# Altium integrated library ON Semi EMI Filters.IntLib: 88 symbols (part 2 of 3)
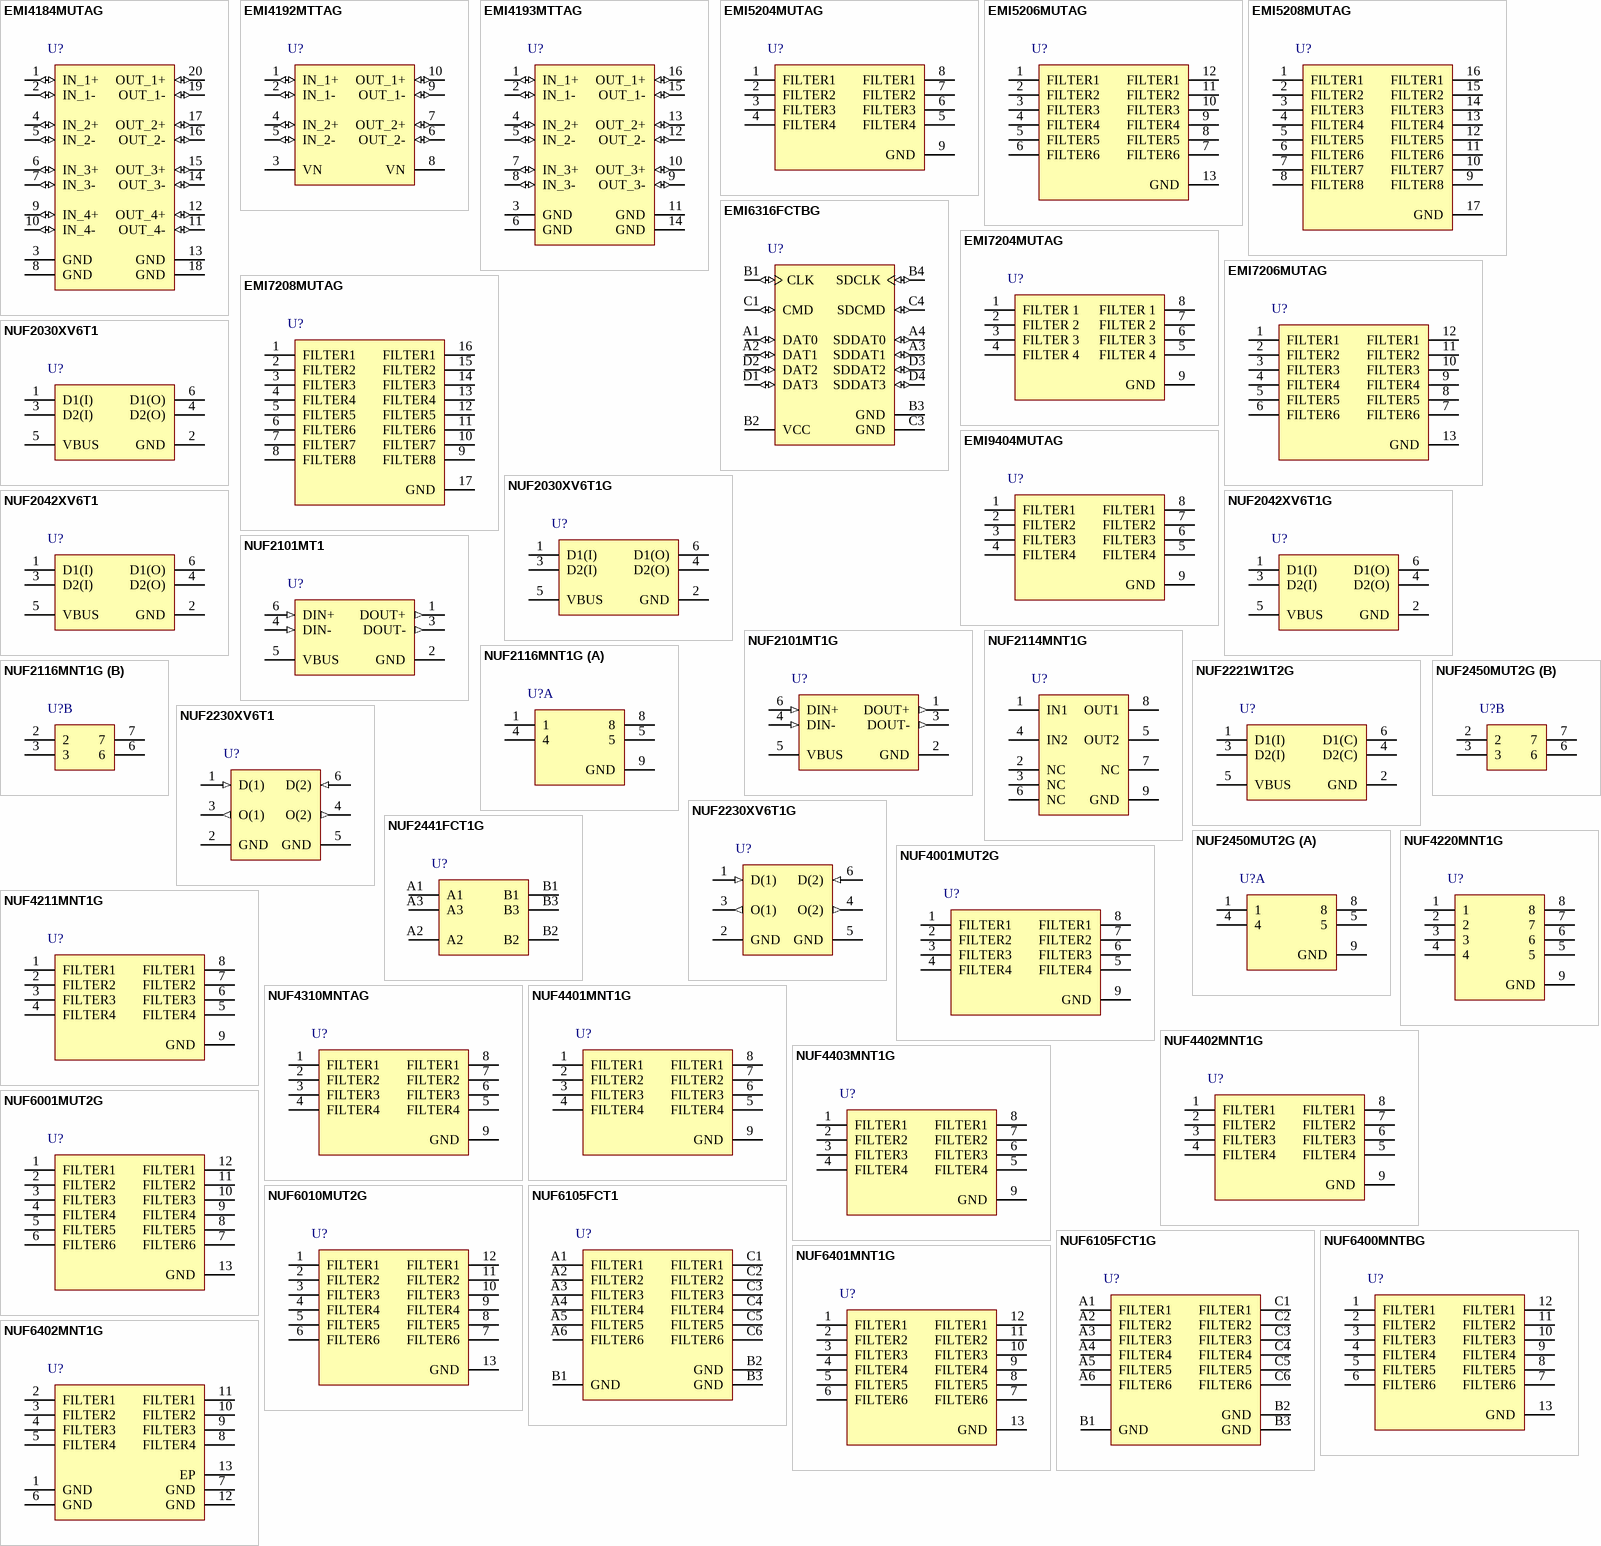
[diagram p3: symbols EMI4184MUTAG to NUF6402MNT1G]

## EMI4184MUTAG
designator U?
Common Mode Filter with ESD Protection, -40 to 85 degC, 20-Pin UDFN, Pb-Free, Tape and Reel; Manufacturer: On Semiconductor; PartNumber: EMI4184MUTAG; C Typ (pF): 0.8; Number of Lines: 8; VRWM Max (V): 5; DatasheetVersion: Rev. 0; PackageVersion: Rev. O, 07/2012; PackageReference: UDFN-20-517CL; PackageDescription: 20-Pin Small Outline No-Lead, Body 5 x 2 mm, Pitch 0.5 mm; Supplier 1: Newark; Supplier Part Number 1: 72W1858; Supplier 2: Mouser; Supplier Part Number 2: 863-EMI4184MUTAG; Packing: Tape and Reel; RoHS: Pb-Free; Mounting Technology: Surface Mount; ComponentLink1Description: Manufacturer URL; ComponentLink1URL: http://www.onsemi.com/; ComponentLink2Description: Datasheet; ComponentLink2URL: http://www.onsemi.com/pub_link/Collateral/EMI4184-D.PDF; ComponentLink3Description: Package Specification; ComponentLink3URL: http://www.onsemi.com/pub_link/Collateral/517CL.PDF
footprint ONSC-UDFN-20-517CL_V (SON, 20-Leads, Body 5x2mm, Pitch 0.5mm)
pins: 1 IN_1+ (io) "CMF Channel 1+ to Connector", 2 IN_1- (io) "CMF Channel 1- to Connector", 3 GND (power) "Ground", 4 IN_2+ (io) "CMF Channel 2+ to Connector", 5 IN_2- (io) "CMF Channel 2- to Connector", 6 IN_3+ (io) "CMF Channel 3+ to Connector", 7 IN_3- (io) "CMF Channel 3- to Connector", 8 GND (power) "Ground", 9 IN_4+ (io) "CMF Channel 4+ to Connector", 10 IN_4- (io) "CMF Channel 4- to Connector", 11 OUT_4- (io) "CMF Channel 4- to ASIC", 12 OUT_4+ (io) "CMF Channel 4+ to ASIC", 13 GND (power) "Ground", 14 OUT_3- (io) "CMF Channel 3- to ASIC", 15 OUT_3+ (io) "CMF Channel 3+ to ASIC", 16 OUT_2- (io) "CMF Channel 2- to ASIC", 17 OUT_2+ (io) "CMF Channel 2+ to ASIC", 18 GND (power) "Ground", 19 OUT_1- (io) "CMF Channel 1- to ASIC", 20 OUT_1+ (io) "CMF Channel 1+ to ASIC"

## EMI4192MTTAG
designator U?
Common Mode Filter with ESD Protection, -40 to 85 degC, 10-Pin WDFN, Pb-Free, Tape and Reel; Manufacturer: On Semiconductor; PartNumber: EMI4192MTTAG; C Typ (pF): 0.8; Number of Lines: 4; VRWM Max (V): 5; DatasheetVersion: Rev. 2; PackageVersion: Rev. O, 06/2010; PackageReference: WDFN-10-511BM-01; PackageDescription: 10-Pin Small Outline No-Lead, Body 2.5 x 2 mm, Pitch 0.5 mm; Supplier 1: Digi-Key; Supplier Part Number 1: EMI4192MTTAG-ND; Supplier 2: Newark; Supplier Part Number 2: 92T2057; Supplier 3: Mouser; Supplier Part Number 3: 863-EMI4192MTTAG; Packing: Tape and Reel; RoHS: Pb-Free; Mounting Technology: Surface Mount; ComponentLink1Description: Manufacturer URL; ComponentLink1URL: http://www.onsemi.com/; ComponentLink2Description: Datasheet; ComponentLink2URL: http://www.onsemi.cn/pub_link/Collateral/EMI4192-D.PDF; ComponentLink3Description: Package Specification; ComponentLink3URL: http://www.onsemi.cn/pub_link/Collateral/511BM.PDF
footprint ONSC-WDFN-10-511BM-01_V (SON, 10-Leads, Body 2.5x2mm, Pitch 0.5mm)
pins: 1 IN_1+ (io) "CMF Channel 1+ to Connector (External)", 2 IN_1- (io) "CMF Channel 1- to Connector (External)", 3 VN (power) "Ground", 4 IN_2+ (io) "CMF Channel 1+ to Connector (External)", 5 IN_2- (io) "CMF Channel 1- to Connector (External)", 6 OUT_2- (io) "CMF Channel 2- to ASIC (Internal)", 7 OUT_2+ (io) "CMF Channel 2+ to ASIC (Internal)", 8 VN (power) "Ground", 9 OUT_1- (io) "CMF Channel 1- to ASIC (Internal)", 10 OUT_1+ (io) "CMF Channel 1+ to ASIC (Internal)"

## EMI4193MTTAG
designator U?
Common Mode Filter with ESD Protection, -40 to 85 degC, 16-Pin WDFN, Pb-Free, Tape and Reel; Manufacturer: On Semiconductor; PartNumber: EMI4193MTTAG; C Typ (pF): 0.8; Number of Lines: 6; VRWM Max (V): 5; DatasheetVersion: Rev. P0; PackageVersion: Rev. O, 06/2010; PackageReference: WDFN-16-511BL-01; PackageDescription: 16-Pin Small Outline No-Lead, Body 4 x 2 mm, Pitch 0.5 mm; Packing: Tape and Reel; RoHS: Pb-Free; Mounting Technology: Surface Mount; ComponentLink1Description: Manufacturer URL; ComponentLink1URL: http://www.onsemi.com/; ComponentLink2Description: Datasheet; ComponentLink2URL: http://www.onsemi.com/pub_link/Collateral/EMI4193-D.PDF; ComponentLink3Description: Package Specification; ComponentLink3URL: http://www.onsemi.com/pub_link/Collateral/511BL.PDF
footprint ONSC-WDFN-16-511BL-01_V (SON, 16-Leads, Body 4x2mm, Pitch 0.5mm)
pins: 1 IN_1+ (io) "CMF Channel 1+ to Connector (External)", 2 IN_1- (io) "CMF Channel 1- to Connector (External)", 3 GND (power) "Ground", 4 IN_2+ (io) "CMF Channel 2+ to Connector (External)", 5 IN_2- (io) "CMF Channel 2- to Connector (External)", 6 GND (power) "Ground", 7 IN_3+ (io) "CMF Channel 3+ to Connector (External)", 8 IN_3- (io) "CMF Channel 3- to Connector (External)", 9 OUT_3- (io) "CMF Channel 3- to ASIC (Internal)", 10 OUT_3+ (io) "CMF Channel 3+ to ASIC (Internal)", 11 GND (power) "Ground", 12 OUT_2- (io) "CMF Channel 2- to ASIC (Internal)", 13 OUT_2+ (io) "CMF Channel 2+ to ASIC (Internal)", 14 GND (power) "Ground", 15 OUT_1- (io) "CMF Channel 1- to ASIC (Internal)", 16 OUT_1+ (io) "CMF Channel 1+ to ASIC (Internal)"

## EMI5204MUTAG
designator U?
Four-Channel EMI Filter with Integrated ESD Protection, -40 to 85 degC, 8-Pin UDFN, Pb-Free, Tape and Reel; Manufacturer: On Semiconductor; PartNumber: EMI5204MUTAG; Number of Lines: 4; V(BR) Typ (V): 7; VRWM Max (V): 5; DatasheetVersion: Rev. 0; PackageVersion: Rev. O, 11/2009; PackageReference: UDFN-8-517BC-01; PackageDescription: 8-Pin Small Outline No-Lead, Body 1.7 x 1.35 mm, Pitch 0.4 mm; Supplier 1: Digi-Key; Supplier Part Number 1: EMI5204MUTAG-ND; Supplier 2: Newark; Supplier Part Number 2: 65T1224; Supplier 3: Mouser; Supplier Part Number 3: 863-EMI5204MUTAG; Packing: Tape and Reel; RoHS: Pb-Free; Mounting Technology: Surface Mount; ComponentLink1Description: Manufacturer URL; ComponentLink1URL: http://www.onsemi.com/; ComponentLink2Description: Datasheet; ComponentLink2URL: http://www.onsemi.cn/pub_link/Collateral/EMI5204MU-D.PDF; ComponentLink3Description: Package Specification; ComponentLink3URL: http://www.onsemi.com/pub_link/Collateral/517BC.PDF
footprint ONSC-UDFN-8-517BC-01_V (SON, 8-Leads, Body 1.7x1.35mm, Pitch 0.4mm, Thermal Pad 1.4x0.5mm)
pins: 1 FILTER1, 2 FILTER2, 3 FILTER3, 4 FILTER4, 5 FILTER4, 6 FILTER3, 7 FILTER2, 8 FILTER1, 9 GND (power)

## EMI5206MUTAG
designator U?
Six-Channel EMI Filter with Integrated ESD Protection, -40 to 85 degC, 12-Pin UDFN, Pb-Free, Tape and Reel; Manufacturer: On Semiconductor; PartNumber: EMI5206MUTAG; Number of Lines: 6; V(BR) Typ (V): 7; VRWM Max (V): 5; DatasheetVersion: Rev. 0; PackageVersion: Rev. O, 11/2009; PackageReference: UDFN-12-517BD-01; PackageDescription: 12-Pin Small Outline No-Lead, Body 2.5 x 1.35 mm, Pitch 0.4 mm; Supplier 1: Digi-Key; Supplier Part Number 1: EMI5206MUTAG-ND; Supplier 2: Newark; Supplier Part Number 2: 65T1225; Supplier 3: Mouser; Supplier Part Number 3: 863-EMI5206MUTAG; Packing: Tape and Reel; RoHS: Pb-Free; Mounting Technology: Surface Mount; ComponentLink1Description: Manufacturer URL; ComponentLink1URL: http://www.onsemi.com/; ComponentLink2Description: Datasheet; ComponentLink2URL: http://www.onsemi.cn/pub_link/Collateral/EMI5204MU-D.PDF; ComponentLink3Description: Package Specification; ComponentLink3URL: http://www.onsemi.com/pub_link/Collateral/517BD.PDF
footprint ONSC-UDFN-12-517BD-01_V (SON, 12-Leads, Body 2.5x1.35mm, Pitch 0.4mm, Thermal Pad 2.2x0.5mm)
pins: 1 FILTER1 "Filter + ESD Channel 1", 2 FILTER2 "Filter + ESD Channel 2", 3 FILTER3 "Filter + ESD Channel 3", 4 FILTER4 "Filter + ESD Channel 4", 5 FILTER5 "Filter + ESD Channel 5", 6 FILTER6 "Filter + ESD Channel 6", 7 FILTER6 "Filter + ESD Channel 6", 8 FILTER5 "Filter + ESD Channel 5", 9 FILTER4 "Filter + ESD Channel 4", 10 FILTER3 "Filter + ESD Channel 3", 11 FILTER2 "Filter + ESD Channel 2", 12 FILTER1 "Filter + ESD Channel 1", 13 GND (power) "Ground"

## EMI5208MUTAG
designator U?
Eight-Channel EMI Filter with Integrated ESD Protection, -40 to 85 degC, 16-Pin UDFN, Pb-Free, Tape and Reel; Manufacturer: On Semiconductor; PartNumber: EMI5208MUTAG; Number of Lines: 8; V(BR) Typ (V): 7; VRWM Max (V): 5; DatasheetVersion: Rev. 0; PackageVersion: Rev. O, 11/2009; PackageReference: UDFN-16-517BE-01; PackageDescription: 16-Pin Small Outline No-Lead, Body 3.3 x 1.35 mm, Pitch 0.4 mm; Supplier 1: Digi-Key; Supplier Part Number 1: EMI5208MUTAG-ND; Supplier 2: Mouser; Supplier Part Number 2: 863-EMI5208MUTAG; Packing: Tape and Reel; RoHS: Pb-Free; Mounting Technology: Surface Mount; ComponentLink1Description: Manufacturer URL; ComponentLink1URL: http://www.onsemi.com/; ComponentLink2Description: Datasheet; ComponentLink2URL: http://www.onsemi.cn/pub_link/Collateral/EMI5204MU-D.PDF; ComponentLink3Description: Package Specification; ComponentLink3URL: http://www.onsemi.com/pub_link/Collateral/517BE.PDF
footprint ONSC-UDFN-16-517BE-01_V (SON, 16-Leads, Body 3.3x1.35mm, Pitch 0.4mm, Thermal Pad 3x0.5mm)
pins: 1 FILTER1 "Filter + ESD Channel 1", 2 FILTER2 "Filter + ESD Channel 2", 3 FILTER3 "Filter + ESD Channel 3", 4 FILTER4 "Filter + ESD Channel 4", 5 FILTER5 "Filter + ESD Channel 5", 6 FILTER6 "Filter + ESD Channel 6", 7 FILTER7 "Filter + ESD Channel 7", 8 FILTER8 "Filter + ESD Channel 8", 9 FILTER8 "Filter + ESD Channel 8", 10 FILTER7 "Filter + ESD Channel 7", 11 FILTER6 "Filter + ESD Channel 6", 12 FILTER5 "Filter + ESD Channel 5", 13 FILTER4 "Filter + ESD Channel 4", 14 FILTER3 "Filter + ESD Channel 3", 15 FILTER2 "Filter + ESD Channel 2", 16 FILTER1 "Filter + ESD Channel 1", 17 GND (power) "Ground"

## EMI6316FCTBG
designator U?
EMI Filter with ESD Protection for MicroSD Card Application, -40 to 85 degC, 15-Pin WLCSP, Pb-Free, Tape and Reel; Manufacturer: On Semiconductor; PartNumber: EMI6316FCTBG; Number of Lines: 7; DatasheetVersion: Rev. 1; PackageVersion: Rev. O, 06/2012; PackageReference: WLCSP-15-567FX; PackageDescription: 15-Ball Wafer Level Chip Scale Package, Body 1.56 x 1.56 mm, Pitch 0.4 mm; Supplier 1: Newark; Supplier Part Number 1: 56W5218; Supplier 2: Mouser; Supplier Part Number 2: 863-EMI6316FCTBG; Packing: Tape and Reel; RoHS: Pb-Free; V(BR) Typ (V): 7; Mounting Technology: Surface Mount; ComponentLink1Description: Manufacturer URL; ComponentLink1URL: http://www.onsemi.com/; ComponentLink2Description: Datasheet; ComponentLink2URL: http://www.onsemi.cn/pub_link/Collateral/EMI6316-D.PDF; ComponentLink3Description: Package Specification; ComponentLink3URL: http://www.onsemi.cn/pub_link/Collateral/567FX.PDF
footprint ONSC-WLCSP-15-567FX (BGA, 15-Balls, Body 1.56x1.56mm, Pitch 0.4mm)
pins: A1 DAT0 (io) "dat0 Internal", A2 DAT1 (io) "dat1 Internal", A3 SDDAT1 (io) "SDdat1 External", A4 SDDAT0 (io) "SDdat0 External", B1 CLK (io) "clk Internal", B2 VCC (power) "VCC External", B3 GND (power), B4 SDCLK (io) "SDclk External", C1 CMD (io) "cmd Internal", C3 GND (power), C4 SDCMD (io) "SDcmd External", D1 DAT3 (io) "data3 Internal", D2 DAT2 (io) "data2 Internal", D3 SDDAT2 (io) "SDdata2 External", D4 SDDAT3 (io) "SDdata3 External"

## EMI7204MUTAG
designator U?
Four-Channel EMI Filter with Integrated ESD Protection, -40 to 85 degC, 8-Pin UDFN, Pb-Free, Tape and Reel; Manufacturer: On Semiconductor; PartNumber: EMI7204MUTAG; Number of Lines: 4; VRWM Max (V): 5; DatasheetVersion: Rev. 0; PackageVersion: Rev. O, 11/2009; PackageReference: UDFN-8-517BC-01; PackageDescription: 8-Pin Small Outline No-Lead, Body 1.7 x 1.35 mm, Pitch 0.4 mm; Supplier 1: Digi-Key; Supplier Part Number 1: EMI7204MUTAGOSTR-ND; Supplier 2: Digi-Key; Supplier Part Number 2: EMI7204MUTAGOSCT-ND; Supplier 3: Digi-Key; Supplier Part Number 3: EMI7204MUTAGOSDKR-ND; Supplier 4: Mouser; Supplier Part Number 4: 863-EMI7204MUTAG; Packing: Tape and Reel; RoHS: Pb-Free; Mounting Technology: Surface Mount; ComponentLink1Description: Manufacturer URL; ComponentLink1URL: http://www.onsemi.com/; ComponentLink2Description: Datasheet; ComponentLink2URL: http://www.onsemi.cn/pub_link/Collateral/EMI7204MU-D.PDF; ComponentLink3Description: Package Specification; ComponentLink3URL: http://www.onsemi.com/pub_link/Collateral/517BC.PDF
footprint ONSC-UDFN-8-517BC-01_V (SON, 8-Leads, Body 1.7x1.35mm, Pitch 0.4mm, Thermal Pad 1.4x0.5mm)
pins: 1 FILTER 1 "Filter + ESD Channel 1", 2 FILTER 2 "Filter + ESD Channel 2", 3 FILTER 3 "Filter + ESD Channel 3", 4 FILTER 4 "Filter + ESD Channel 4", 5 FILTER 4 "Filter + ESD Channel 4", 6 FILTER 3 "Filter + ESD Channel 3", 7 FILTER 2 "Filter + ESD Channel 2", 8 FILTER 1 "Filter + ESD Channel 1", 9 GND (power) "Ground"

## EMI7206MUTAG
designator U?
Six-Channel EMI Filter with Integrated ESD Protection, -40 to 85 degC, 12-Pin UDFN, Pb-Free, Tape and Reel; Manufacturer: On Semiconductor; PartNumber: EMI7206MUTAG; Number of Lines: 6; VRWM Max (V): 5; DatasheetVersion: Rev. 0; PackageVersion: Rev. O, 11/2009; PackageReference: UDFN-12-517BD-01; PackageDescription: 12-Pin Small Outline No-Lead, Body 2.5 x 1.35 mm, Pitch 0.4 mm; Supplier 1: Digi-Key; Supplier Part Number 1: EMI7206MUTAG-ND; Supplier 2: Mouser; Supplier Part Number 2: 863-EMI7206MUTAG; Packing: Tape and Reel; RoHS: Pb-Free; Mounting Technology: Surface Mount; ComponentLink1Description: Manufacturer URL; ComponentLink1URL: http://www.onsemi.com/; ComponentLink2Description: Datasheet; ComponentLink2URL: http://www.onsemi.cn/pub_link/Collateral/EMI7204MU-D.PDF; ComponentLink3Description: Package Specification; ComponentLink3URL: http://www.onsemi.com/pub_link/Collateral/517BD.PDF
footprint ONSC-UDFN-12-517BD-01_V (SON, 12-Leads, Body 2.5x1.35mm, Pitch 0.4mm, Thermal Pad 2.2x0.5mm)
pins: 1 FILTER1 "Filter + ESD Channel 1", 2 FILTER2 "Filter + ESD Channel 2", 3 FILTER3 "Filter + ESD Channel 3", 4 FILTER4 "Filter + ESD Channel 4", 5 FILTER5 "Filter + ESD Channel 5", 6 FILTER6 "Filter + ESD Channel 6", 7 FILTER6 "Filter + ESD Channel 6", 8 FILTER5 "Filter + ESD Channel 5", 9 FILTER4 "Filter + ESD Channel 4", 10 FILTER3 "Filter + ESD Channel 3", 11 FILTER2 "Filter + ESD Channel 2", 12 FILTER1 "Filter + ESD Channel 1", 13 GND (power) "Ground"

## EMI7208MUTAG
designator U?
Eight-Channel EMI Filter with Integrated ESD Protection, -40 to 85 degC, 16-Pin UDFN, Pb-Free, Tape and Reel; Manufacturer: On Semiconductor; PartNumber: EMI7208MUTAG; Number of Lines: 8; VRWM Max (V): 5; DatasheetVersion: Rev. 0; PackageVersion: Rev. O, 11/2009; PackageReference: UDFN-16-517BE-01; PackageDescription: 16-Pin Small Outline No-Lead, Body 3.3 x 1.35 mm, Pitch 0.4 mm; Supplier 1: Digi-Key; Supplier Part Number 1: EMI7208MUTAGOSTR-ND; Supplier 2: Digi-Key; Supplier Part Number 2: EMI7208MUTAGOSCT-ND; Supplier 3: Digi-Key; Supplier Part Number 3: EMI7208MUTAGOSDKR-ND; Supplier 4: Newark; Supplier Part Number 4: 24T3067; Supplier 5: Mouser; Supplier Part Number 5: 863-EMI7208MUTAG; Packing: Tape and Reel; RoHS: Pb-Free; Mounting Technology: Surface Mount; ComponentLink1Description: Manufacturer URL; ComponentLink1URL: http://www.onsemi.com/; ComponentLink2Description: Datasheet; ComponentLink2URL: http://www.onsemi.cn/pub_link/Collateral/EMI7204MU-D.PDF; ComponentLink3Description: Package Specification; ComponentLink3URL: http://www.onsemi.com/pub_link/Collateral/517BE.PDF
footprint ONSC-UDFN-16-517BE-01_V (SON, 16-Leads, Body 3.3x1.35mm, Pitch 0.4mm, Thermal Pad 3x0.5mm)
pins: 1 FILTER1 "Filter + ESD Channel 1", 2 FILTER2 "Filter + ESD Channel 2", 3 FILTER3 "Filter + ESD Channel 3", 4 FILTER4 "Filter + ESD Channel 4", 5 FILTER5 "Filter + ESD Channel 5", 6 FILTER6 "Filter + ESD Channel 6", 7 FILTER7 "Filter + ESD Channel 7", 8 FILTER8 "Filter + ESD Channel 8", 9 FILTER8 "Filter + ESD Channel 8", 10 FILTER7 "Filter + ESD Channel 7", 11 FILTER6 "Filter + ESD Channel 6", 12 FILTER5 "Filter + ESD Channel 5", 13 FILTER4 "Filter + ESD Channel 4", 14 FILTER3 "Filter + ESD Channel 3", 15 FILTER2 "Filter + ESD Channel 2", 16 FILTER1 "Filter + ESD Channel 1", 17 GND (power) "Ground"

## EMI9404MUTAG
designator U?
PRAETORIAN(R) III 4-Channel EMI Array with ESD Protection, -40 to 85 degC, 8-Pin UDFN, Pb-Free, Tape and Reel; Manufacturer: On Semiconductor; PartNumber: EMI9404MUTAG; Number of Lines: 4; DatasheetVersion: Rev. 1; PackageVersion: Rev. O, 11/2009; PackageReference: UDFN-8-517BC-01; PackageDescription: 8-Pin Small Outline No-Lead, Body 1.7 x 1.35 mm, Pitch 0.4 mm; Supplier 1: Digi-Key; Supplier Part Number 1: EMI9404MUTAG-ND; Supplier 2: Newark; Supplier Part Number 2: 92T2058; Supplier 3: Mouser; Supplier Part Number 3: 863-EMI9404MUTAG; Packing: Tape and Reel; RoHS: Pb-Free; Mounting Technology: Surface Mount; ComponentLink1Description: Manufacturer URL; ComponentLink1URL: http://www.onsemi.com/; ComponentLink2Description: Datasheet; ComponentLink2URL: http://www.onsemi.cn/pub_link/Collateral/EMI9404-D.PDF; ComponentLink3Description: Package Specification; ComponentLink3URL: http://www.onsemi.com/pub_link/Collateral/517BC.PDF
footprint ONSC-UDFN-8-517BC-01_V (SON, 8-Leads, Body 1.7x1.35mm, Pitch 0.4mm, Thermal Pad 1.4x0.5mm)
pins: 1 FILTER1 "Filter + ESD Channel 1 (Internal)", 2 FILTER2 "Filter + ESD Channel 2 (Internal)", 3 FILTER3 "Filter + ESD Channel 3 (Internal)", 4 FILTER4 "Filter + ESD Channel 4 (Internal)", 5 FILTER4 "Filter + ESD Channel 4 (External)", 6 FILTER3 "Filter + ESD Channel 3 (External)", 7 FILTER2 "Filter + ESD Channel 2 (External)", 8 FILTER1 "Filter + ESD Channel 1 (External)", 9 GND (power) "Device Ground"

## NUF2030XV6T1
designator U?
USB Upstream Terminator with ESD Protection, -55 to 125 degC, 6-Pin SOT-563, Pb-Free, Tape and Reel; Manufacturer: On Semiconductor; PartNumber: NUF2030XV6T1; C Typ (pF): 30; Number of Lines: 3; V(BR) Typ (V): 6.8; VRWM Max (V): 5.25; DatasheetVersion: Rev. 2; PackageVersion: Rev. F, 04/2005; PackageReference: SOT-563-6-463A-01; PackageDescription: 6-Pin Small Outline Transistor, Body 1.6 x 1.2 mm, Pitch 0.5 mm; Supplier 1: Digi-Key; Supplier Part Number 1: NUF2030XV6T1-ND; Supplier 2: Mouser; Supplier Part Number 2: 863-NUF2030XV6T1; Packing: Tape and Reel; RoHS: Pb-Free; Mounting Technology: Surface Mount; ComponentLink1Description: Manufacturer URL; ComponentLink1URL: http://www.onsemi.com/; ComponentLink2Description: Datasheet; ComponentLink2URL: http://www.onsemi.cn/pub_link/Collateral/NUF2030XV6-D.PDF; ComponentLink3Description: Package Specification; ComponentLink3URL: http://www.onsemi.cn/pub_link/Collateral/463A-01.PDF
footprint ONSC-SOT-563-6-463A-01_V (SOT23, 6-Leads, Body 1.6x1.2mm, Pitch 0.5mm)
pins: 1 D1(I), 2 GND (power), 3 D2(I), 4 D2(O), 5 VBUS (power), 6 D1(O)

## NUF2030XV6T1G
designator U?
USB Upstream Terminator with ESD Protection, -55 to 125 degC, 6-Pin SOT-563, Pb-Free, Tape and Reel; Manufacturer: On Semiconductor; PartNumber: NUF2030XV6T1G; C Typ (pF): 30; Number of Lines: 3; V(BR) Typ (V): 6.8; VRWM Max (V): 5.25; DatasheetVersion: Rev. 2; PackageVersion: Rev. F, 04/2005; PackageReference: SOT-563-6-463A-01; PackageDescription: 6-Pin Small Outline Transistor, Body 1.6 x 1.2 mm, Pitch 0.5 mm; Supplier 1: Digi-Key; Supplier Part Number 1: NUF2030XV6T1G-ND; Supplier 2: Mouser; Supplier Part Number 2: 863-NUF2030XV6T1G; Packing: Tape and Reel; RoHS: Pb-Free; Mounting Technology: Surface Mount; ComponentLink1Description: Manufacturer URL; ComponentLink1URL: http://www.onsemi.com/; ComponentLink2Description: Datasheet; ComponentLink2URL: http://www.onsemi.cn/pub_link/Collateral/NUF2030XV6-D.PDF; ComponentLink3Description: Package Specification; ComponentLink3URL: http://www.onsemi.cn/pub_link/Collateral/463A-01.PDF
footprint ONSC-SOT-563-6-463A-01_V (SOT23, 6-Leads, Body 1.6x1.2mm, Pitch 0.5mm)
pins: 1 D1(I), 2 GND (power), 3 D2(I), 4 D2(O), 5 VBUS (power), 6 D1(O)

## NUF2042XV6T1
designator U?
USB Upstream Terminator with ESD Protection, 6-Pin SOT-563, Pb-Free, Tape and Reel; Manufacturer: On Semiconductor; PartNumber: NUF2042XV6T1; C Typ (pF): 42; Number of Lines: 3; V(BR) Typ (V): 6.8; VRWM Max (V): 5.25; DatasheetVersion: Rev. 2; PackageVersion: Rev. F, 04/2005; PackageReference: SOT-563-6-463A-01; PackageDescription: 6-Pin Small Outline Transistor, Body 1.6 x 1.2 mm, Pitch 0.5 mm; Supplier 1: Digi-Key; Supplier Part Number 1: NUF2042XV6T1-ND; Supplier 2: Mouser; Supplier Part Number 2: 863-NUF2042XV6T1; Packing: Tape and Reel; RoHS: Pb-Free; Mounting Technology: Surface Mount; ComponentLink1Description: Manufacturer URL; ComponentLink1URL: http://www.onsemi.com/; ComponentLink2Description: Datasheet; ComponentLink2URL: http://www.onsemi.cn/pub_link/Collateral/NUF2030XV6-D.PDF; ComponentLink3Description: Package Specification; ComponentLink3URL: http://www.onsemi.cn/pub_link/Collateral/463A-01.PDF
footprint ONSC-SOT-563-6-463A-01_V (SOT23, 6-Leads, Body 1.6x1.2mm, Pitch 0.5mm)
pins: 1 D1(I), 2 GND (power), 3 D2(I), 4 D2(O), 5 VBUS (power), 6 D1(O)

## NUF2042XV6T1G
designator U?
USB Upstream Terminator with ESD Protection, 6-Pin SOT-563, Pb-Free, Tape and Reel; Manufacturer: On Semiconductor; PartNumber: NUF2042XV6T1G; C Typ (pF): 42; Number of Lines: 3; V(BR) Typ (V): 6.8; VRWM Max (V): 5.25; DatasheetVersion: Rev. 2; PackageVersion: Rev. F, 04/2005; PackageReference: SOT-563-6-463A-01; PackageDescription: 6-Pin Small Outline Transistor, Body 1.6 x 1.2 mm, Pitch 0.5 mm; Supplier 1: Digi-Key; Supplier Part Number 1: NUF2042XV6T1GOSTR-ND; Supplier 2: Digi-Key; Supplier Part Number 2: NUF2042XV6T1GOSCT-ND; Supplier 3: Digi-Key; Supplier Part Number 3: NUF2042XV6T1GOSDKR-ND; Supplier 4: Newark; Supplier Part Number 4: 83K8696; Supplier 5: Mouser; Supplier Part Number 5: 863-NUF2042XV6T1G; Packing: Tape and Reel; RoHS: Pb-Free; Mounting Technology: Surface Mount; ComponentLink1Description: Manufacturer URL; ComponentLink1URL: http://www.onsemi.com/; ComponentLink2Description: Datasheet; ComponentLink2URL: http://www.onsemi.cn/pub_link/Collateral/NUF2030XV6-D.PDF; ComponentLink3Description: Package Specification; ComponentLink3URL: http://www.onsemi.cn/pub_link/Collateral/463A-01.PDF
footprint ONSC-SOT-563-6-463A-01_V (SOT23, 6-Leads, Body 1.6x1.2mm, Pitch 0.5mm)
pins: 1 D1(I), 2 GND (power), 3 D2(I), 4 D2(O), 5 VBUS (power), 6 D1(O)

## NUF2101MT1
designator U?
USB Filter with ESD Protection, -55 to 125 degC, 6-Pin TSOP, Tape and Reel; Manufacturer: On Semiconductor; PartNumber: NUF2101MT1; C Typ (pF): 55; Number of Lines: 3; DatasheetVersion: Rev. 1; PackageVersion: Rev. V, 06/2012; PackageReference: TSOP-6-318G-02; PackageDescription: 6-Pin Small Outline Package, Body 3 x 1.5 mm, Pitch 0.95 mm; Supplier 1: Digi-Key; Supplier Part Number 1: NUF2101MT1OSTR-ND; Supplier 2: Digi-Key; Supplier Part Number 2: NUF2101MT1OSCT-ND; Supplier 3: Mouser; Supplier Part Number 3: 863-NUF2101MT1; Packing: Tape and Reel; Mounting Technology: Surface Mount; ComponentLink1Description: Manufacturer URL; ComponentLink1URL: http://www.onsemi.com/; ComponentLink2Description: Datasheet; ComponentLink2URL: http://www.onsemi.cn/pub_link/Collateral/NUF2101M-D.PDF; ComponentLink3Description: Package Specification; ComponentLink3URL: http://www.onsemi.com/pub_link/Collateral/318G-02.PDF
footprint ONSC-TSOP-6-318G-02_V (SOP, 6-Leads, Body 3x1.5mm, Pitch 0.95mm)
pins: 1 DOUT+ (out), 2 GND (power), 3 DOUT- (out), 4 DIN- (in), 5 VBUS (power), 6 DIN+ (in)

## NUF2101MT1G
designator U?
USB Filter with ESD Protection, -55 to 125 degC, 6-Pin TSOP, Pb-Free, Tape and Reel; Manufacturer: On Semiconductor; PartNumber: NUF2101MT1G; C Typ (pF): 55; Number of Lines: 3; DatasheetVersion: Rev. 1; PackageVersion: Rev. V, 06/2012; PackageReference: TSOP-6-318G-02; PackageDescription: 6-Pin Small Outline Package, Body 3 x 1.5 mm, Pitch 0.95 mm; Supplier 1: Digi-Key; Supplier Part Number 1: NUF2101MT1GOSTR-ND; Supplier 2: Digi-Key; Supplier Part Number 2: NUF2101MT1GOSCT-ND; Supplier 3: Digi-Key; Supplier Part Number 3: NUF2101MT1GOSDKR-ND; Supplier 4: Newark; Supplier Part Number 4: 04R7860; Supplier 5: Newark; Supplier Part Number 5: 26K5132; Supplier 6: Mouser; Supplier Part Number 6: 863-NUF2101MT1G; Packing: Tape and Reel; RoHS: Pb-Free; Mounting Technology: Surface Mount; ComponentLink1Description: Manufacturer URL; ComponentLink1URL: http://www.onsemi.com/; ComponentLink2Description: Datasheet; ComponentLink2URL: http://www.onsemi.cn/pub_link/Collateral/NUF2101M-D.PDF; ComponentLink3Description: Package Specification; ComponentLink3URL: http://www.onsemi.com/pub_link/Collateral/318G-02.PDF
footprint ONSC-TSOP-6-318G-02_V (SOP, 6-Leads, Body 3x1.5mm, Pitch 0.95mm)
pins: 1 DOUT+ (out), 2 GND (power), 3 DOUT- (out), 4 DIN- (in), 5 VBUS (power), 6 DIN+ (in)

## NUF2114MNT1G
designator U?
2 Line Audio EMI Filter with ESD Protection, -40 to 85 degC, 8-Pin DFN, Pb-Free, Tape and Reel; Manufacturer: On Semiconductor; PartNumber: NUF2114MNT1G; C Typ (pF): 60; Number of Lines: 2; V(BR) Typ (V): 15.7; VRWM Max (V): 12; DatasheetVersion: Rev. 0; PackageVersion: Rev. E, 01/2010; PackageReference: DFN-8-506AA-01; PackageDescription: 8-Pin Small Outline No-Lead, Body 2 x 2 mm, Pitch 0.5 mm; Supplier 1: Digi-Key; Supplier Part Number 1: NUF2114MNT1GOSTR-ND; Supplier 2: Digi-Key; Supplier Part Number 2: NUF2114MNT1GOSCT-ND; Supplier 3: Digi-Key; Supplier Part Number 3: NUF2114MNT1GOSDKR-ND; Supplier 4: Newark; Supplier Part Number 4: 83K8698; Supplier 5: Mouser; Supplier Part Number 5: 863-NUF2114MNT1G; Packing: Tape and Reel; RoHS: Pb-Free; Mounting Technology: Surface Mount; ComponentLink1Description: Manufacturer URL; ComponentLink1URL: http://www.onsemi.com/; ComponentLink2Description: Datasheet; ComponentLink2URL: http://www.onsemi.cn/pub_link/Collateral/NUF2114-D.PDF; ComponentLink3Description: Package Specification; ComponentLink3URL: http://www.onsemi.cn/pub_link/Collateral/506AA.PDF
footprint ONSC-DFN-8-506AA-01_V (SON, 8-Leads, Body 2x2mm, Pitch 0.5mm, Thermal Pad 1.3x0.9mm)
pins: 1 IN1, 2 NC, 3 NC, 4 IN2, 5 OUT2, 6 NC, 7 NC, 8 OUT1, 9 GND (power)

## NUF2116MNT1G
designator U?
2 Line Audio EMI Filter with ESD Protection, -40 to 85 degC, 8-Pin DFN, Pb-Free, Tape and Reel; Manufacturer: On Semiconductor; PartNumber: NUF2116MNT1G; C Typ (pF): 50; Number of Lines: 2; V(BR) Typ (V): 15.7; VRWM Max (V): 12; DatasheetVersion: Rev. 1; PackageVersion: Rev. E, 01/2010; PackageReference: DFN-8-506AA-01; PackageDescription: 8-Pin Small Outline No-Lead, Body 2 x 2 mm, Pitch 0.5 mm; Supplier 1: Digi-Key; Supplier Part Number 1: NUF2116MNT1GOSTR-ND; Supplier 2: Digi-Key; Supplier Part Number 2: NUF2116MNT1GOSCT-ND; Supplier 3: Newark; Supplier Part Number 3: 83K8699; Supplier 4: Mouser; Supplier Part Number 4: 863-NUF2116MNT1G; Packing: Tape and Reel; RoHS: Pb-Free; Mounting Technology: Surface Mount; ComponentLink1Description: Manufacturer URL; ComponentLink1URL: http://www.onsemi.com/; ComponentLink2Description: Datasheet; ComponentLink2URL: http://www.onsemi.cn/pub_link/Collateral/NUF2116MN-D.PDF; ComponentLink3Description: Package Specification; ComponentLink3URL: http://www.onsemi.cn/pub_link/Collateral/506AA.PDF
footprint ONSC-DFN-8-506AA-01_V (SON, 8-Leads, Body 2x2mm, Pitch 0.5mm, Thermal Pad 1.3x0.9mm)
part A pins: 1, 4, 5, 8, 9 GND (power)
part B pins: 2, 3, 6, 7

## NUF2221W1T2G
designator U?
USB Upstream Terminator with ESD Protection, -55 to 125 degC, 6-Pin SC70, Pb-Free, Tape and Reel; Manufacturer: On Semiconductor; PartNumber: NUF2221W1T2G; C Typ (pF): 42; Number of Lines: 3; V(BR) Typ (V): 6.8; VRWM Max (V): 5.25; DatasheetVersion: Rev. 0; PackageVersion: Rev. W; PackageReference: SC70-6-419B-02_W; PackageDescription: 6-Pin Small Outline Transistor, Body 2 x 1.25 mm, Pitch 0.65 mm; Supplier 1: Digi-Key; Supplier Part Number 1: NUF2221W1T2GOSTR-ND; Supplier 2: Digi-Key; Supplier Part Number 2: NUF2221W1T2GOSCT-ND; Supplier 3: Digi-Key; Supplier Part Number 3: NUF2221W1T2GOSDKR-ND; Supplier 4: Farnell; Supplier Part Number 4: 2101235; Supplier 5: Newark; Supplier Part Number 5: 04R7861; Supplier 6: Newark; Supplier Part Number 6: 45J2193; Supplier 7: Mouser; Supplier Part Number 7: 863-NUF2221W1T2G; Packing: Tape and Reel; RoHS: Pb-Free; Mounting Technology: Surface Mount; ComponentLink1Description: Manufacturer URL; ComponentLink1URL: http://www.onsemi.com/; ComponentLink2Description: Datasheet; ComponentLink2URL: http://www.onsemi.cn/pub_link/Collateral/NUF2221W1T2-D.PDF; ComponentLink3Description: Package Specification; ComponentLink3URL: http://www.onsemi.com/pub_link/Collateral/SMF05C-D.PDF
footprint ONSC-SC70-6-419B-02_W_V (SOT23, 6-Leads, Body 2x1.25mm, Pitch 0.65mm)
pins: 1 D1(I), 2 GND (power), 3 D2(I), 4 D2(C), 5 VBUS (power), 6 D1(C)

## NUF2230XV6T1
designator U?
2 Line EMI Filter with ESD Protection, -40 to 85 degC, 6-Pin SOT-563, Pb-Free, Tape and Reel; Manufacturer: On Semiconductor; PartNumber: NUF2230XV6T1; C Typ (pF): 16; Number of Lines: 2; V(BR) Typ (V): 7; VRWM Max (V): 5; DatasheetVersion: Rev. 3; PackageVersion: Rev. F, 04/2005; PackageReference: SOT-563-6-463A-01; PackageDescription: 6-Pin Small Outline Transistor, Body 1.6 x 1.2 mm, Pitch 0.5 mm; Supplier 1: Digi-Key; Supplier Part Number 1: NUF2230XV6T1-ND; Supplier 2: Mouser; Supplier Part Number 2: 863-NUF2230XV6T1; Packing: Tape and Reel; RoHS: Pb-Free; Mounting Technology: Surface Mount; ComponentLink1Description: Manufacturer URL; ComponentLink1URL: http://www.onsemi.com/; ComponentLink2Description: Datasheet; ComponentLink2URL: http://www.onsemi.cn/pub_link/Collateral/NUF2230XV6-D.PDF; ComponentLink3Description: Package Specification; ComponentLink3URL: http://www.onsemi.cn/pub_link/Collateral/463A-01.PDF
footprint ONSC-SOT-563-6-463A-01_V (SOT23, 6-Leads, Body 1.6x1.2mm, Pitch 0.5mm)
pins: 1 D(1) (in), 2 GND (power), 3 O(1) (out), 4 O(2) (out), 5 GND (power), 6 D(2) (in)

## NUF2230XV6T1G
designator U?
2 Line EMI Filter with ESD Protection, -40 to 85 degC, 6-Pin SOT-563, Pb-Free, Tape and Reel; Manufacturer: On Semiconductor; PartNumber: NUF2230XV6T1G; C Typ (pF): 16; Number of Lines: 2; V(BR) Typ (V): 7; VRWM Max (V): 5; DatasheetVersion: Rev. 3; PackageVersion: Rev. F, 04/2005; PackageReference: SOT-563-6-463A-01; PackageDescription: 6-Pin Small Outline Transistor, Body 1.6 x 1.2 mm, Pitch 0.5 mm; Supplier 1: Digi-Key; Supplier Part Number 1: NUF2230XV6T1GOSTR-ND; Supplier 2: Digi-Key; Supplier Part Number 2: NUF2230XV6T1GOSCT-ND; Supplier 3: Digi-Key; Supplier Part Number 3: NUF2230XV6T1GOSDKR-ND; Supplier 4: Mouser; Supplier Part Number 4: 863-NUF2230XV6T1G; Packing: Tape and Reel; RoHS: Pb-Free; Mounting Technology: Surface Mount; ComponentLink1Description: Manufacturer URL; ComponentLink1URL: http://www.onsemi.com/; ComponentLink2Description: Datasheet; ComponentLink2URL: http://www.onsemi.cn/pub_link/Collateral/NUF2230XV6-D.PDF; ComponentLink3Description: Package Specification; ComponentLink3URL: http://www.onsemi.cn/pub_link/Collateral/463A-01.PDF
footprint ONSC-SOT-563-6-463A-01_V (SOT23, 6-Leads, Body 1.6x1.2mm, Pitch 0.5mm)
pins: 1 D(1) (in), 2 GND (power), 3 O(1) (out), 4 O(2) (out), 5 GND (power), 6 D(2) (in)

## NUF2441FCT1G
designator U?
Integrated Passive Filter with ESD Protection, -40 to 125 degC, 6-Pin FLIP-CHIP, Pb-Free, Tape and Reel; Manufacturer: On Semiconductor; PartNumber: NUF2441FCT1G; C Typ (pF): 250; Number of Lines: 2; VRWM Max (V): 12; DatasheetVersion: Rev. 5; PackageVersion: Rev. O, 02/2004; PackageReference: FLIP-CHIP-6-499J-01; PackageDescription: 6-Ball Flip Chip Ball Grid Array, Body 1.72 x 1.22 mm, Pitch 0.5 mm; Supplier 1: Digi-Key; Supplier Part Number 1: NUF2441FCT1GOSTR-ND; Supplier 2: Digi-Key; Supplier Part Number 2: NUF2441FCT1GOSCT-ND; Supplier 3: Digi-Key; Supplier Part Number 3: NUF2441FCT1GOSDKR-ND; Supplier 4: Newark; Supplier Part Number 4: 45J2194; Supplier 5: Mouser; Supplier Part Number 5: 863-NUF2441FCT1G; Packing: Tape and Reel; RoHS: Pb-Free; Mounting Technology: Surface Mount; ComponentLink1Description: Manufacturer URL; ComponentLink1URL: http://www.onsemi.com/; ComponentLink2Description: Datasheet; ComponentLink2URL: http://www.onsemi.cn/pub_link/Collateral/NUF2441FC-D.PDF; ComponentLink3Description: Package Specification; ComponentLink3URL: http://www.onsemi.cn/pub_link/Collateral/499J.PDF
footprint ONSC-FLIP-CHIP-6-499J-01 (BGA, 6-Balls, Body 1.72x1.22mm, Pitch 0.5mm)
pins: A1, A2 (power), A3, B1, B2 (power), B3

## NUF2450MUT2G
designator U?
2 Line EMI Filter with ESD Protection, -40 to 85 degC, 8-Pin UDFN, Pb-Free, Tape and Reel; Manufacturer: On Semiconductor; PartNumber: NUF2450MUT2G; C Typ (pF): 240; Number of Lines: 2; V(BR) Typ (V): 7; VRWM Max (V): 5; DatasheetVersion: Rev. 0; PackageVersion: Rev. D, 10/2012; PackageReference: UDFN-8-517AD; PackageDescription: 8-Pin Small Outline No-Lead, Body 1.8 x 1.2 mm, Pitch 0.4 mm; Supplier 1: Digi-Key; Supplier Part Number 1: NUF2450MUT2GOSTR-ND; Supplier 2: Digi-Key; Supplier Part Number 2: NUF2450MUT2GOSCT-ND; Supplier 3: Mouser; Supplier Part Number 3: 863-NUF2450MUT2G; Packing: Tape and Reel; RoHS: Pb-Free; Mounting Technology: Surface Mount; ComponentLink1Description: Manufacturer URL; ComponentLink1URL: http://www.onsemi.com/; ComponentLink2Description: Datasheet; ComponentLink2URL: http://www.onsemi.cn/pub_link/Collateral/NUF2450-D.PDF; ComponentLink3Description: Package Specification; ComponentLink3URL: http://www.onsemi.com/pub_link/Collateral/517AD.PDF
footprint ONSC-UDFN-8-517AD_V (SON, 8-Leads, Body 1.8x1.2mm, Pitch 0.4mm, Thermal Pad 0.35x1.1mm)
part A pins: 1, 4, 5, 8, 9 GND (power)
part B pins: 2, 3, 6, 7

## NUF4001MUT2G
designator U?
4-Channel EMI Filter with Integrated ESD Protection, -40 to 85 degC, 8-Pin UDFN, Pb-Free, Tape and Reel; Manufacturer: On Semiconductor; PartNumber: NUF4001MUT2G; Number of Lines: 4; V(BR) Typ (V): 7; VRWM Max (V): 5; DatasheetVersion: Rev. 7; PackageVersion: Rev. D, 10/2012; PackageReference: UDFN-8-517AD; PackageDescription: 8-Pin Small Outline No-Lead, Body 1.8 x 1.2 mm, Pitch 0.4 mm; Supplier 1: Digi-Key; Supplier Part Number 1: NUF4001MUT2G-ND; Supplier 2: Mouser; Supplier Part Number 2: 863-NUF4001MUT2G; Packing: Tape and Reel; RoHS: Pb-Free; Mounting Technology: Surface Mount; ComponentLink1Description: Manufacturer URL; ComponentLink1URL: http://www.onsemi.com/; ComponentLink2Description: Datasheet; ComponentLink2URL: http://www.onsemi.cn/pub_link/Collateral/NUF4001MU-D.PDF; ComponentLink3Description: Package Specification; ComponentLink3URL: http://www.onsemi.com/pub_link/Collateral/517AD.PDF
footprint ONSC-UDFN-8-517AD_V (SON, 8-Leads, Body 1.8x1.2mm, Pitch 0.4mm, Thermal Pad 0.35x1.1mm)
pins: 1 FILTER1, 2 FILTER2, 3 FILTER3, 4 FILTER4, 5 FILTER4, 6 FILTER3, 7 FILTER2, 8 FILTER1, 9 GND (power)

## NUF4211MNT1G
designator U?
4-Channel EMI Filter with Integrated ESD Protection, -40 to 85 degC, 8-Pin DFN, Pb-Free, Tape and Reel; Manufacturer: On Semiconductor; PartNumber: NUF4211MNT1G; Number of Lines: 4; V(BR) Typ (V): 7; VRWM Max (V): 5; DatasheetVersion: Rev. 1; PackageVersion: Rev. E, 01/2010; PackageReference: DFN-8-506AA-01; PackageDescription: 8-Pin Small Outline No-Lead, Body 2 x 2 mm, Pitch 0.5 mm; Supplier 1: Digi-Key; Supplier Part Number 1: NUF4211MNT1G-ND; Supplier 2: Mouser; Supplier Part Number 2: 863-NUF4211MNT1G; Packing: Tape and Reel; RoHS: Pb-Free; Mounting Technology: Surface Mount; ComponentLink1Description: Manufacturer URL; ComponentLink1URL: http://www.onsemi.com/; ComponentLink2Description: Datasheet; ComponentLink2URL: http://www.onsemi.cn/pub_link/Collateral/NUF4211MN-D.PDF; ComponentLink3Description: Package Specification; ComponentLink3URL: http://www.onsemi.cn/pub_link/Collateral/506AA.PDF
footprint ONSC-DFN-8-506AA-01_V (SON, 8-Leads, Body 2x2mm, Pitch 0.5mm, Thermal Pad 1.3x0.9mm)
pins: 1 FILTER1, 2 FILTER2, 3 FILTER3, 4 FILTER4, 5 FILTER4, 6 FILTER3, 7 FILTER2, 8 FILTER1, 9 GND (power)

## NUF4220MNT1G
designator U?
4 Line Audio EMI Filter with ESD Protection, -40 to 85 degC, 8-Pin DFN, Pb-Free, Tape and Reel; Manufacturer: On Semiconductor; PartNumber: NUF4220MNT1G; C Typ (pF): 205; Number of Lines: 4; V(BR) Typ (V): 7; VRWM Max (V): 5; DatasheetVersion: Rev. 0; PackageVersion: Rev. E, 01/2010; PackageReference: DFN-8-506AA-01; PackageDescription: 8-Pin Small Outline No-Lead, Body 2 x 2 mm, Pitch 0.5 mm; Supplier 1: Digi-Key; Supplier Part Number 1: NUF4220MNT1G-ND; Supplier 2: Newark; Supplier Part Number 2: 27M2770; Supplier 3: Mouser; Supplier Part Number 3: 863-NUF4220MNT1G; Packing: Tape and Reel; RoHS: Pb-Free; Mounting Technology: Surface Mount; ComponentLink1Description: Manufacturer URL; ComponentLink1URL: http://www.onsemi.com/; ComponentLink2Description: Datasheet; ComponentLink2URL: http://www.onsemi.cn/pub_link/Collateral/NUF4220MN-D.PDF; ComponentLink3Description: Package Specification; ComponentLink3URL: http://www.onsemi.cn/pub_link/Collateral/506AA.PDF
footprint ONSC-DFN-8-506AA-01_V (SON, 8-Leads, Body 2x2mm, Pitch 0.5mm, Thermal Pad 1.3x0.9mm)
pins: 1, 2, 3, 4, 5, 6, 7, 8, 9 GND (power)

## NUF4310MNTAG
designator U?
4-Channel EMI Filter with Integrated ESD Protection, -40 to 85 degC, 8-Pin WDFN, Pb-Free, Tape and Reel; Manufacturer: On Semiconductor; PartNumber: NUF4310MNTAG; Number of Lines: 4; V(BR) Typ (V): 7; VRWM Max (V): 5; DatasheetVersion: Rev. 1; PackageVersion: Rev. O, 08/2008; PackageReference: WDFN-8-511AF-01; PackageDescription: 8-Pin Small Outline No-Lead, Body 1.6 x 1 mm, Pitch 0.4 mm; Supplier 1: Digi-Key; Supplier Part Number 1: NUF4310MNTAG-ND; Supplier 2: Mouser; Supplier Part Number 2: 863-NUF4310MNTAG; Packing: Tape and Reel; RoHS: Pb-Free; Mounting Technology: Surface Mount; ComponentLink1Description: Manufacturer URL; ComponentLink1URL: http://www.onsemi.com/; ComponentLink2Description: Datasheet; ComponentLink2URL: http://www.onsemi.cn/pub_link/Collateral/NUF4310MN-D.PDF; ComponentLink3Description: Package Specification; ComponentLink3URL: http://www.onsemi.cn/pub_link/Collateral/511AF.PDF
footprint ONSC-WDFN-8-511AF-01_V (WDFN, 8-Leads, Body 1.6x1mm, Pitch 0.4mm, Thermal Pad 0.94x0.3mm)
pins: 1 FILTER1, 2 FILTER2, 3 FILTER3, 4 FILTER4, 5 FILTER4, 6 FILTER3, 7 FILTER2, 8 FILTER1, 9 GND (power)

## NUF4401MNT1G
designator U?
4-Channel EMI Filter with Integrated ESD Protection, -40 to 85 degC, 8-Pin DFN, Pb-Free, Tape and Reel; Manufacturer: On Semiconductor; PartNumber: NUF4401MNT1G; Number of Lines: 4; V(BR) Typ (V): 7; VRWM Max (V): 5; DatasheetVersion: Rev. 2; PackageVersion: Rev. B, 12/2012; PackageReference: DFN-8-506AQ; PackageDescription: 8-Pin Small Outline No-Lead, Body 2 x 2 mm, Pitch 0.5 mm; Supplier 1: Digi-Key; Supplier Part Number 1: NUF4401MNT1GOSTR-ND; Supplier 2: Digi-Key; Supplier Part Number 2: NUF4401MNT1GOSCT-ND; Supplier 3: Mouser; Supplier Part Number 3: 863-NUF4401MNT1G; Packing: Tape and Reel; RoHS: Pb-Free; Mounting Technology: Surface Mount; ComponentLink1Description: Manufacturer URL; ComponentLink1URL: http://www.onsemi.com/; ComponentLink2Description: Datasheet; ComponentLink2URL: http://www.onsemi.cn/pub_link/Collateral/NUF4401MN-D.PDF; ComponentLink3Description: Package Specification; ComponentLink3URL: http://www.onsemi.cn/pub_link/Collateral/506AQ.PDF
footprint ONSC-DFN-8-506AQ_V (SON, 8-Leads, Body 2x2mm, Pitch 0.5mm, Thermal Pad 0.75x1.4mm)
pins: 1 FILTER1, 2 FILTER2, 3 FILTER3, 4 FILTER4, 5 FILTER4, 6 FILTER3, 7 FILTER2, 8 FILTER1, 9 GND (power)

## NUF4402MNT1G
designator U?
4-Channel EMI Filter with Integrated ESD Protection, -40 to 85 degC, 8-Pin DFN, Pb-Free, Tape and Reel; Manufacturer: On Semiconductor; PartNumber: NUF4402MNT1G; Number of Lines: 4; V(BR) Typ (V): 7; VRWM Max (V): 5; DatasheetVersion: Rev. 3; PackageVersion: Rev. C, 09/2005; PackageReference: DFN-8-506AK-01; PackageDescription: 8-Pin Small Outline No-Lead, Body 1.6 x 1.6 mm, Pitch 0.4 mm; Supplier 1: Digi-Key; Supplier Part Number 1: NUF4402MNT1GOSTR-ND; Supplier 2: Digi-Key; Supplier Part Number 2: NUF4402MNT1GOSCT-ND; Supplier 3: Digi-Key; Supplier Part Number 3: NUF4402MNT1GOSDKR-ND; Supplier 4: Mouser; Supplier Part Number 4: 863-NUF4402MNT1G; Packing: Tape and Reel; RoHS: Pb-Free; Mounting Technology: Surface Mount; ComponentLink1Description: Manufacturer URL; ComponentLink1URL: http://www.onsemi.com/; ComponentLink2Description: Datasheet; ComponentLink2URL: http://www.onsemi.cn/pub_link/Collateral/NUF4402MN-D.PDF; ComponentLink3Description: Package Specification; ComponentLink3URL: http://www.onsemi.cn/pub_link/Collateral/506AK.PDF
footprint ONSC-DFN-8-506AK-01_V (SON, 8-Leads, Body 1.6x1.6mm, Pitch 0.4mm, Thermal Pad 0.902x0.502mm)
pins: 1 FILTER1, 2 FILTER2, 3 FILTER3, 4 FILTER4, 5 FILTER4, 6 FILTER3, 7 FILTER2, 8 FILTER1, 9 GND (power)

## NUF4403MNT1G
designator U?
4-Channel EMI Filter with Integrated ESD Protection, -40 to 85 degC, 8-Pin DFN, Pb-Free, Tape and Reel; Manufacturer: On Semiconductor; PartNumber: NUF4403MNT1G; Number of Lines: 4; V(BR) Typ (V): 7; VRWM Max (V): 5; DatasheetVersion: Rev. 2; PackageVersion: Rev. C, 09/2005; PackageReference: DFN-8-506AK-01; PackageDescription: 8-Pin Small Outline No-Lead, Body 1.6 x 1.6 mm, Pitch 0.4 mm; Supplier 1: Digi-Key; Supplier Part Number 1: NUF4403MNT1GOSTR-ND; Supplier 2: Digi-Key; Supplier Part Number 2: NUF4403MNT1GOSCT-ND; Supplier 3: Mouser; Supplier Part Number 3: 863-NUF4403MNT1G; Packing: Tape and Reel; RoHS: Pb-Free; Mounting Technology: Surface Mount; ComponentLink1Description: Manufacturer URL; ComponentLink1URL: http://www.onsemi.com/; ComponentLink2Description: Datasheet; ComponentLink2URL: http://www.onsemi.cn/pub_link/Collateral/NUF4403MN-D.PDF; ComponentLink3Description: Package Specification; ComponentLink3URL: http://www.onsemi.cn/pub_link/Collateral/506AK.PDF
footprint ONSC-DFN-8-506AK-01_V (SON, 8-Leads, Body 1.6x1.6mm, Pitch 0.4mm, Thermal Pad 0.902x0.502mm)
pins: 1 FILTER1, 2 FILTER2, 3 FILTER3, 4 FILTER4, 5 FILTER4, 6 FILTER3, 7 FILTER2, 8 FILTER1, 9 GND (power)

## NUF6001MUT2G
designator U?
6-Channel EMI Filter with Integrated ESD Protection, -40 to 85 degC, 12-Pin UDFN, Pb-Free, Tape and Reel; Manufacturer: On Semiconductor; PartNumber: NUF6001MUT2G; Number of Lines: 6; V(BR) Typ (V): 7; VRWM Max (V): 5; DatasheetVersion: Rev. 4; PackageVersion: Rev. C, 10/2012; PackageReference: UDFN-12-517AE; PackageDescription: 12-Pin Small Outline No-Lead, Body 2.5 x 1.2 mm, Pitch 0.4 mm; Supplier 1: Digi-Key; Supplier Part Number 1: NUF6001MUT2GOSTR-ND; Supplier 2: Digi-Key; Supplier Part Number 2: NUF6001MUT2GOSCT-ND; Supplier 3: Digi-Key; Supplier Part Number 3: NUF6001MUT2GOSDKR-ND; Supplier 4: Newark; Supplier Part Number 4: 34M7875; Supplier 5: Mouser; Supplier Part Number 5: 863-NUF6001MUT2G; Packing: Tape and Reel; RoHS: Pb-Free; Mounting Technology: Surface Mount; ComponentLink1Description: Manufacturer URL; ComponentLink1URL: http://www.onsemi.com/; ComponentLink2Description: Datasheet; ComponentLink2URL: http://www.onsemi.cn/pub_link/Collateral/NUF6001MU-D.PDF; ComponentLink3Description: Package Specification; ComponentLink3URL: http://www.onsemi.com/pub_link/Collateral/517AE.PDF
footprint ONSC-UDFN-12-517AE_V (SON, 12-Leads, Body 2.5x1.2mm, Pitch 0.4mm, Thermal Pad 0.35x1.9mm)
pins: 1 FILTER1 "Filter + ESD Channel 1", 2 FILTER2 "Filter + ESD Channel 2", 3 FILTER3 "Filter + ESD Channel 3", 4 FILTER4 "Filter + ESD Channel 4", 5 FILTER5 "Filter + ESD Channel 5", 6 FILTER6 "Filter + ESD Channel 6", 7 FILTER6 "Filter + ESD Channel 6", 8 FILTER5 "Filter + ESD Channel 5", 9 FILTER4 "Filter + ESD Channel 4", 10 FILTER3 "Filter + ESD Channel 3", 11 FILTER2 "Filter + ESD Channel 2", 12 FILTER1 "Filter + ESD Channel 1", 13 GND (power) "Ground"

## NUF6010MUT2G
designator U?
6-Channel EMI Filter with Integrated ESD Protection, -40 to 85 degC, 12-Pin UDFN, Pb-Free, Tape and Reel; Manufacturer: On Semiconductor; PartNumber: NUF6010MUT2G; Number of Lines: 6; V(BR) Typ (V): 7; VRWM Max (V): 5; DatasheetVersion: Rev. 6; PackageVersion: Rev. C, 10/2012; PackageReference: UDFN-12-517AE; PackageDescription: 12-Pin Small Outline No-Lead, Body 2.5 x 1.2 mm, Pitch 0.4 mm; Supplier 1: Digi-Key; Supplier Part Number 1: NUF6010MUT2GOSTR-ND; Supplier 2: Digi-Key; Supplier Part Number 2: NUF6010MUT2GOSCT-ND; Supplier 3: Digi-Key; Supplier Part Number 3: NUF6010MUT2GOSDKR-ND; Supplier 4: Mouser; Supplier Part Number 4: 863-NUF6010MUT2G; Packing: Tape and Reel; RoHS: Pb-Free; Mounting Technology: Surface Mount; ComponentLink1Description: Manufacturer URL; ComponentLink1URL: http://www.onsemi.com/; ComponentLink2Description: Datasheet; ComponentLink2URL: http://www.onsemi.com/pub_link/Collateral/NUF6010MU-D.PDF; ComponentLink3Description: Package Specification; ComponentLink3URL: http://www.onsemi.com/pub_link/Collateral/517AE.PDF
footprint ONSC-UDFN-12-517AE_V (SON, 12-Leads, Body 2.5x1.2mm, Pitch 0.4mm, Thermal Pad 0.35x1.9mm)
pins: 1 FILTER1 "Filter + ESD Channel 1", 2 FILTER2 "Filter + ESD Channel 2", 3 FILTER3 "Filter + ESD Channel 3", 4 FILTER4 "Filter + ESD Channel 4", 5 FILTER5 "Filter + ESD Channel 5", 6 FILTER6 "Filter + ESD Channel 6", 7 FILTER6 "Filter + ESD Channel 6", 8 FILTER5 "Filter + ESD Channel 5", 9 FILTER4 "Filter + ESD Channel 4", 10 FILTER3 "Filter + ESD Channel 3", 11 FILTER2 "Filter + ESD Channel 2", 12 FILTER1 "Filter + ESD Channel 1", 13 GND (power) "Ground"

## NUF6105FCT1
designator U?
6-Channel EMI Filter with Integrated ESD Protection, -40 to 85 degC, 15-Pin FLIP-CHIP, Tape and Reel; Manufacturer: On Semiconductor; PartNumber: NUF6105FCT1; Number of Lines: 6; V(BR) Typ (V): 7; VRWM Max (V): 5; DatasheetVersion: Rev. 4; PackageVersion: Rev. O, 10/2002; PackageReference: FLIP-CHIP-15-499D-01; PackageDescription: 15-Ball Flip Chip Ball Grid Array, Body 2.96 x 1.33 mm; Supplier 1: Digi-Key; Supplier Part Number 1: NUF6105FCT1OSTR-ND; Supplier 2: Digi-Key; Supplier Part Number 2: NUF6105FCT1OSCT-ND; Packing: Tape and Reel; Mounting Technology: Surface Mount; ComponentLink1Description: Manufacturer URL; ComponentLink1URL: http://www.onsemi.com/; ComponentLink2Description: Datasheet; ComponentLink2URL: http://www.onsemi.com/pub_link/Collateral/NUF6105FCT1-D.PDF; ComponentLink3Description: Package Specification; ComponentLink3URL: http://www.onsemi.com/pub_link/Collateral/499D-01.PDF
footprint ONSC-FLIP-CHIP-15-499D-01 (BGA, 15-Balls, Body 2.96x1.33mm)
pins: A1 FILTER1 "Filter + ESD Channel 1", A2 FILTER2 "Filter + ESD Channel 2", A3 FILTER3 "Filter + ESD Channel 3", A4 FILTER4 "Filter + ESD Channel 4", A5 FILTER5 "Filter + ESD Channel 5", A6 FILTER6 "Filter + ESD Channel 6", B1 GND (power) "Ground", B2 GND (power) "Ground", B3 GND (power) "Ground", C1 FILTER1 "Filter + ESD Channel 1", C2 FILTER2 "Filter + ESD Channel 2", C3 FILTER3 "Filter + ESD Channel 3", C4 FILTER4 "Filter + ESD Channel 4", C5 FILTER5 "Filter + ESD Channel 5", C6 FILTER6 "Filter + ESD Channel 6"

## NUF6105FCT1G
designator U?
6-Channel EMI Filter with Integrated ESD Protection, -40 to 85 degC, 15-Pin FLIP-CHIP, Pb-Free, Tape and Reel; Manufacturer: On Semiconductor; PartNumber: NUF6105FCT1G; Number of Lines: 6; V(BR) Typ (V): 7; VRWM Max (V): 5; DatasheetVersion: Rev. 4; PackageVersion: Rev. O, 10/2002; PackageReference: FLIP-CHIP-15-499D-01; PackageDescription: 15-Ball Flip Chip Ball Grid Array, Body 2.96 x 1.33 mm; Supplier 1: Digi-Key; Supplier Part Number 1: NUF6105FCT1GOSTR-ND; Supplier 2: Digi-Key; Supplier Part Number 2: NUF6105FCT1GOSCT-ND; Supplier 3: Mouser; Supplier Part Number 3: 863-NUF6105FCT1G; Packing: Tape and Reel; RoHS: Pb-Free; Mounting Technology: Surface Mount; ComponentLink1Description: Manufacturer URL; ComponentLink1URL: http://www.onsemi.com/; ComponentLink2Description: Datasheet; ComponentLink2URL: http://www.onsemi.com/pub_link/Collateral/NUF6105FCT1-D.PDF; ComponentLink3Description: Package Specification; ComponentLink3URL: http://www.onsemi.com/pub_link/Collateral/499D-01.PDF
footprint ONSC-FLIP-CHIP-15-499D-01 (BGA, 15-Balls, Body 2.96x1.33mm)
pins: A1 FILTER1 "Filter + ESD Channel 1", A2 FILTER2 "Filter + ESD Channel 2", A3 FILTER3 "Filter + ESD Channel 3", A4 FILTER4 "Filter + ESD Channel 4", A5 FILTER5 "Filter + ESD Channel 5", A6 FILTER6 "Filter + ESD Channel 6", B1 GND (power) "Ground", B2 GND (power) "Ground", B3 GND (power) "Ground", C1 FILTER1 "Filter + ESD Channel 1", C2 FILTER2 "Filter + ESD Channel 2", C3 FILTER3 "Filter + ESD Channel 3", C4 FILTER4 "Filter + ESD Channel 4", C5 FILTER5 "Filter + ESD Channel 5", C6 FILTER6 "Filter + ESD Channel 6"

## NUF6400MNTBG
designator U?
6-Channel EMI Filter with Integrated ESD Protection, -40 to 85 degC, 12-Pin DFN, Pb-Free, Tape and Reel; Manufacturer: On Semiconductor; PartNumber: NUF6400MNTBG; Number of Lines: 6; V(BR) Typ (V): 7; VRWM Max (V): 5; DatasheetVersion: Rev. 3; PackageVersion: Rev. J, 07/2008; PackageReference: DFN-12-506AD-01; PackageDescription: 12-Pin Small Outline No-Lead, Body 3 x 1.35 mm, Pitch 0.5 mm; Supplier 1: Digi-Key; Supplier Part Number 1: NUF6400MNTBG-ND; Supplier 2: Mouser; Supplier Part Number 2: 863-NUF6400MNTBG; Packing: Tape and Reel; RoHS: Pb-Free; Mounting Technology: Surface Mount; ComponentLink1Description: Manufacturer URL; ComponentLink1URL: http://www.onsemi.com/; ComponentLink2Description: Datasheet; ComponentLink2URL: http://www.onsemi.com/pub_link/Collateral/NUF6400MN-D.PDF; ComponentLink3Description: Package Specification; ComponentLink3URL: http://www.onsemi.com/pub_link/Collateral/506AD.PDF
footprint ONSC-DFN-12-506AD-01_V (SON, 12-Leads, Body 3x1.35mm, Pitch 0.5mm, Thermal Pad 2.352x0.351mm)
pins: 1 FILTER1 "Filter + ESD Channel 1", 2 FILTER2 "Filter + ESD Channel 2", 3 FILTER3 "Filter + ESD Channel 3", 4 FILTER4 "Filter + ESD Channel 4", 5 FILTER5 "Filter + ESD Channel 5", 6 FILTER6 "Filter + ESD Channel 6", 7 FILTER6 "Filter + ESD Channel 6", 8 FILTER5 "Filter + ESD Channel 5", 9 FILTER4 "Filter + ESD Channel 4", 10 FILTER3 "Filter + ESD Channel 3", 11 FILTER2 "Filter + ESD Channel 2", 12 FILTER1 "Filter + ESD Channel 1", 13 GND (power) "Ground"